# EAGLE library part FDC1004DGSR (library FDC1004DGSR)
4 Channel Capacitance to Digital Converter for Capacitive Sensing (Cap Sensing) Solutions Source: Datasheet <http://www.ti.com/lit/gpn/fdc1004>
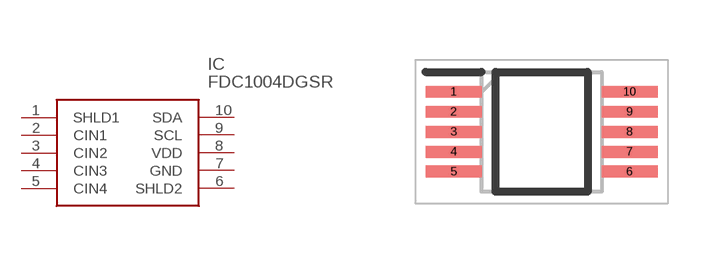
[diagram p0: symbol with the pads of SOP50P490X110-10N; footprint SOP50P490X110-10N]

Designator prefix IC

## FDC1004DGSR (Description: 4 Channel Capacitance to Digital Converter for Capacitive Sensing (Cap Sensing) Solutions; Height: 1.1mm; Manufacturer_Name: Texas Instruments; Manufacturer_Part_Number: FDC1004DGSR; Mouser_Part_Number: 595-FDC1004DGSR; Mouser_Price-Stock: https://www.mouser.co.uk/ProductDetail/Texas-Instruments/FDC1004DGSR?qs=zEQ6BYqA5vF%252BEdgfKNFEaA%3D%3D)  [SOP50P490X110-10N]
1  SHLD1  in
2  CIN1  in
3  CIN2  in
4  CIN3  in
5  CIN4  in
6  SHLD2  in
7  GND  pwr
8  VDD  pwr
9  SCL  in
10  SDA

## Footprint SOP50P490X110-10N (pad centres in mm)
DGS0010A
smd 1.4 x 0.3: 1 -2.2,1; 2 -2.2,0.5; 3 -2.2,0; 4 -2.2,-0.5; 5 -2.2,-1; 6 2.2,-1; 7 2.2,-0.5; 8 2.2,0; 9 2.2,0.5; 10 2.2,1